# EAGLE library part SN74CB3Q3245PW (library lib_test)
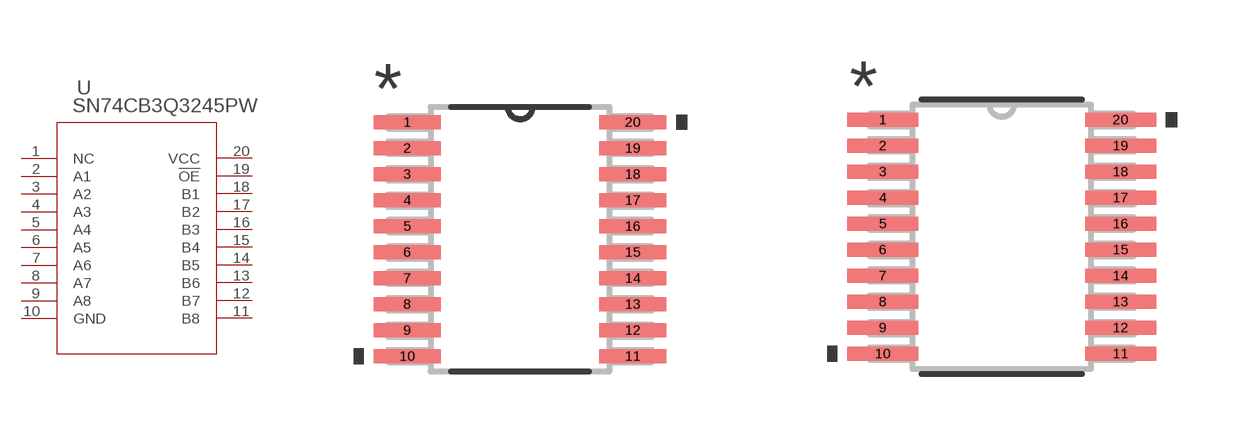
[diagram p6: symbol with the pads of PW20; footprints PW20, PW20-M]

Designator prefix U

## SN74CB3Q3245PW (DATASHEET_URL: http://www.ti.com/lit/gpn/SN74CB3Q3245; DESCRIPTION: 8-Bit 2.5-V/3.3-V Low-Voltage FET Bus Switch; FAMILY_NAME: DIGITAL BUS SWITCH; GENERIC_PART_NUMBER: SN74CB3Q3245; INDUSTRY_STD_PKG_TYPE: TSSOP; MANUFACTURER: Texas Instruments; MANUFACTURER_PART_NUMBER: SN74CB3Q3245PW; PACKAGE_DESIGNATOR: PW; PIN_COUNT: 20; VENDOR: Texas Instruments)  [PW20]
1  NC  pas
2  A1
3  A2
4  A3
5  A4
6  A5
7  A6
8  A7
9  A8
10  GND  pwr
11  B8
12  B7
13  B6
14  B5
15  B4
16  B3
17  B2
18  B1
19  !OE  in
20  VCC  pwr

## SN74CB3Q3245PWPW20-M (DATASHEET_URL: http://www.ti.com/lit/gpn/SN74CB3Q3245; DESCRIPTION: 8-Bit 2.5-V/3.3-V Low-Voltage FET Bus Switch; FAMILY_NAME: DIGITAL BUS SWITCH; GENERIC_PART_NUMBER: SN74CB3Q3245; INDUSTRY_STD_PKG_TYPE: TSSOP; MANUFACTURER: Texas Instruments; MANUFACTURER_PART_NUMBER: SN74CB3Q3245PW; PACKAGE_DESIGNATOR: PW; PIN_COUNT: 20; VENDOR: Texas Instruments)  [PW20-M]
Pads as for PW20

## SN74CB3Q3245PWPW20-L (DATASHEET_URL: http://www.ti.com/lit/gpn/SN74CB3Q3245; DESCRIPTION: 8-Bit 2.5-V/3.3-V Low-Voltage FET Bus Switch; FAMILY_NAME: DIGITAL BUS SWITCH; GENERIC_PART_NUMBER: SN74CB3Q3245; INDUSTRY_STD_PKG_TYPE: TSSOP; MANUFACTURER: Texas Instruments; MANUFACTURER_PART_NUMBER: SN74CB3Q3245PW; PACKAGE_DESIGNATOR: PW; PIN_COUNT: 20; VENDOR: Texas Instruments)  [PW20-L]
Pads as for PW20

## Footprint PW20 (pad centres in mm)
smd 1.676 x 0.356: 1 -2.819,2.925; 2 -2.819,2.275; 3 -2.819,1.625; 4 -2.819,0.975; 5 -2.819,0.325; 6 -2.819,-0.325; 7 -2.819,-0.975; 8 -2.819,-1.625; 9 -2.819,-2.275; 10 -2.819,-2.925; 11 2.819,-2.925; 12 2.819,-2.275; 13 2.819,-1.625; 14 2.819,-0.975; 15 2.819,-0.325; 16 2.819,0.325; 17 2.819,0.975; 18 2.819,1.625; 19 2.819,2.275; 20 2.819,2.925

## Footprint PW20-M (pad centres in mm)
smd 1.778 x 0.356: 1 -2.972,2.925; 2 -2.972,2.275; 3 -2.972,1.625; 4 -2.972,0.975; 5 -2.972,0.325; 6 -2.972,-0.325; 7 -2.972,-0.975; 8 -2.972,-1.625; 9 -2.972,-2.275; 10 -2.972,-2.925; 11 2.972,-2.925; 12 2.972,-2.275; 13 2.972,-1.625; 14 2.972,-0.975; 15 2.972,-0.325; 16 2.972,0.325; 17 2.972,0.975; 18 2.972,1.625; 19 2.972,2.275; 20 2.972,2.925

## Footprint PW20-L (pad centres in mm)
smd 1.168 x 0.305: 1 -2.87,2.925; 2 -2.87,2.275; 3 -2.87,1.625; 4 -2.87,0.975; 5 -2.87,0.325; 6 -2.87,-0.325; 7 -2.87,-0.975; 8 -2.87,-1.625; 9 -2.87,-2.275; 10 -2.87,-2.925; 11 2.87,-2.925; 12 2.87,-2.275; 13 2.87,-1.625; 14 2.87,-0.975; 15 2.87,-0.325; 16 2.87,0.325; 17 2.87,0.975; 18 2.87,1.625; 19 2.87,2.275; 20 2.87,2.925